# Altium integrated library WS-DITV 2.54 mm compact THT with raised actuator.IntLib: 2 symbols
Pins are listed as number, name and electrical type; pins without a type are passive.

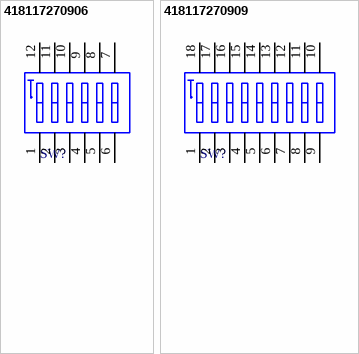
[diagram p0: symbols 418117270906 to 418117270909]

## 418117270906
designator SW?
WS-DITV 2.54 mm Compact THT Dip Switch with Raised Actuator; PartNumber: 418117270906; NoPins: 12; PackageReference: 418117270906; ComponentLink1Description: Manufacturer URL; ComponentLink1URL: http://www.we-online.com; ComponentLink2Description: Datasheet; ComponentLink2URL: http://katalog.we-online.de/em/datasheet/4181172709xx.pdf
footprint 418117270906 (06p, 2.54mm Pitch, Horizontal, Box Type, THT, raised Actuator, red, without Tape, Tube)
pins: 1, 2, 3, 4, 5, 6, 7, 8, 9, 10, 11, 12

## 418117270909
designator SW?
WS-DITV 2.54 mm Compact THT Dip Switch with Raised Actuator; PartNumber: 418117270909; NoPins: 18; PackageReference: 418117270909; ComponentLink1Description: Manufacturer URL; ComponentLink1URL: http://www.we-online.com; ComponentLink2Description: Datasheet; ComponentLink2URL: http://katalog.we-online.de/em/datasheet/4181172709xx.pdf
footprint 418117270909 (09p, 2.54mm Pitch, Horizontal, Box Type, THT, raised Actuator, red, without Tape, Tube)
pins: 1, 2, 3, 4, 5, 6, 7, 8, 9, 10, 11, 12, 13, 14, 15, 16, 17, 18